# Altium schematic symbol library BLM15AX102SN1D.SchLib: 1 symbol
Pins are listed as number, name and electrical type; pins without a type are passive.

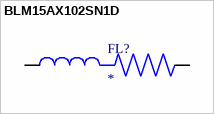
[diagram p0: symbol BLM15AX102SN1D]

## BLM15AX102SN1D
designator FL?
1 kOhms @ 100 MHz 1 - Ferrite Bead 0402 (1005 Metric) 350mA 490mOhm; MF: Murata; MP: BLM15AX102SN1D; SnapEDA_Link: https://www.snapeda.com/parts/BLM15AX102SN1D/Murata/view-part/?ref=snap; Package: 1005 Taiyo Yuden; Value: *; Check_prices: https://www.snapeda.com/parts/BLM15AX102SN1D/Murata/view-part/?ref=eda
footprint BEADC1005X55N
pins: 1, 2